# EAGLE library part CY8C26233-24* (library cypressmicro)
The CY8C25xxx/26xxx family of Programmable System-on-Chip (PSoC) microcontrollers offers a fast core, Flash program memory and SRAM data memory with configurable analog and digital peripheral blocks in a range of convinient pinouts and memory size on one single chip.
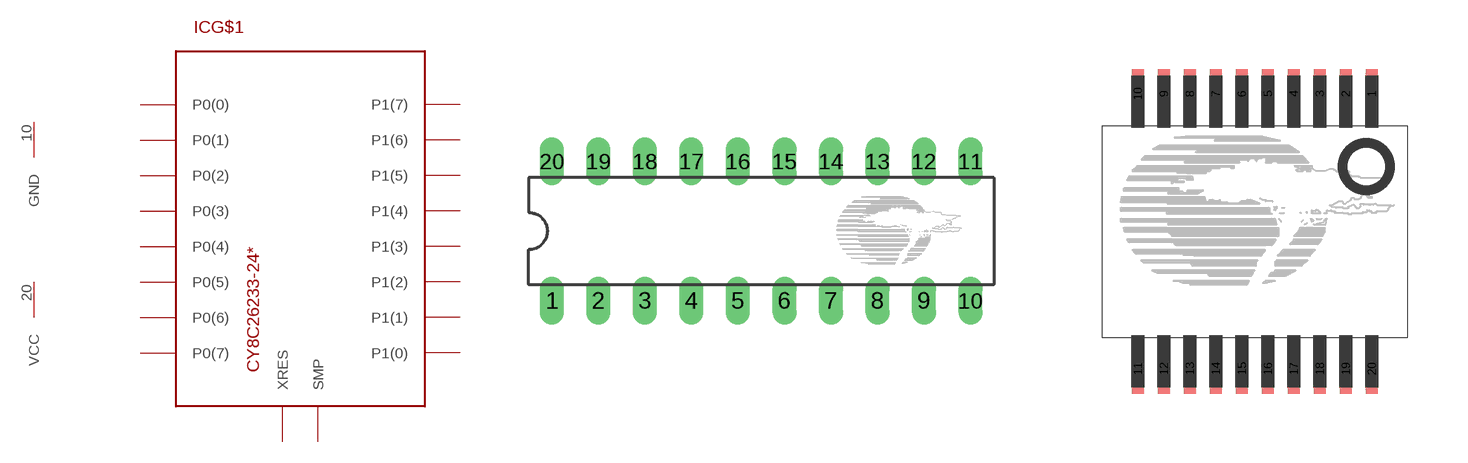
[diagram p3: symbol with the pads of PDIP20; footprints PDIP20, SSOP20]

Designator prefix IC; gates G$1=CY8C26233 G$2=GND G$3=VCC

## CY8C26233-24PI  [PDIP20]
1  G$1:P0(7)
2  G$1:P0(5)
3  G$1:P0(3)
4  G$1:P0(1)
5  G$1:SMP  out
6  G$1:P1(7)
7  G$1:P1(5)
8  G$1:P1(3)
9  G$1:P1(1)
10  G$2:GND  pwr
11  G$1:P1(0)
12  G$1:P1(2)
13  G$1:P1(4)
14  G$1:P1(6)
15  G$1:XRES  in
16  G$1:P0(0)
17  G$1:P0(2)
18  G$1:P0(4)
19  G$1:P0(6)
20  G$3:VCC  pwr

## CY8C26233-24PVI  [SSOP20]
Pads as for PDIP20

## CY8C26233-24SI  [SOIC20]
Pads as for PDIP20

## Footprint PDIP20 (pad centres in mm)
Plastic Dual Inline Package with 20 pins
drill 0.813 long: 1 -11.43,-3.81; 2 -8.89,-3.81; 3 -6.35,-3.81; 4 -3.81,-3.81; 5 -1.27,-3.81; 6 1.27,-3.81; 7 3.81,-3.81; 8 6.35,-3.81; 9 8.89,-3.81; 10 11.43,-3.81; 11 11.43,3.81; 12 8.89,3.81; 13 6.35,3.81; 14 3.81,3.81; 15 1.27,3.81; 16 -1.27,3.81; 17 -3.81,3.81; 18 -6.35,3.81; 19 -8.89,3.81; 20 -11.43,3.81

## Footprint SSOP20 (pad centres in mm)
Shrunk Small Outline Package with 20 pins
smd 0.305 x 1.245: 1 2.924,3.441; 2 2.274,3.441; 3 1.624,3.441; 4 0.974,3.441; 5 0.325,3.44; 6 -0.326,3.441; 7 -0.976,3.441; 8 -1.626,3.441; 9 -2.276,3.441; 10 -2.926,3.441; 11 -2.924,-3.441; 12 -2.274,-3.441; 13 -1.624,-3.441; 14 -0.974,-3.441; 15 -0.324,-3.441; 16 0.326,-3.441; 17 0.976,-3.441; 18 1.626,-3.441; 19 2.276,-3.441; 20 2.926,-3.441

## Footprint SOIC20 (pad centres in mm)
SOIC with 20 pins
smd 0.6 x 2.2: 1 5.715,4.235; 2 4.445,4.235; 3 3.175,4.235; 4 1.905,4.235; 5 0.635,4.235; 6 -0.635,4.235; 7 -1.905,4.235; 8 -3.175,4.235; 9 -4.445,4.235; 10 -5.715,4.235; 11 -5.715,-4.235; 12 -4.445,-4.235; 13 -3.175,-4.235; 14 -1.905,-4.235; 15 -0.635,-4.235; 16 0.635,-4.235; 17 1.905,-4.235; 18 3.175,-4.235; 19 4.445,-4.235; 20 5.715,-4.235